# Altium schematic symbol library Balance.SchLib: 74 symbols
Pins are listed as number, name and electrical type; pins without a type are passive.

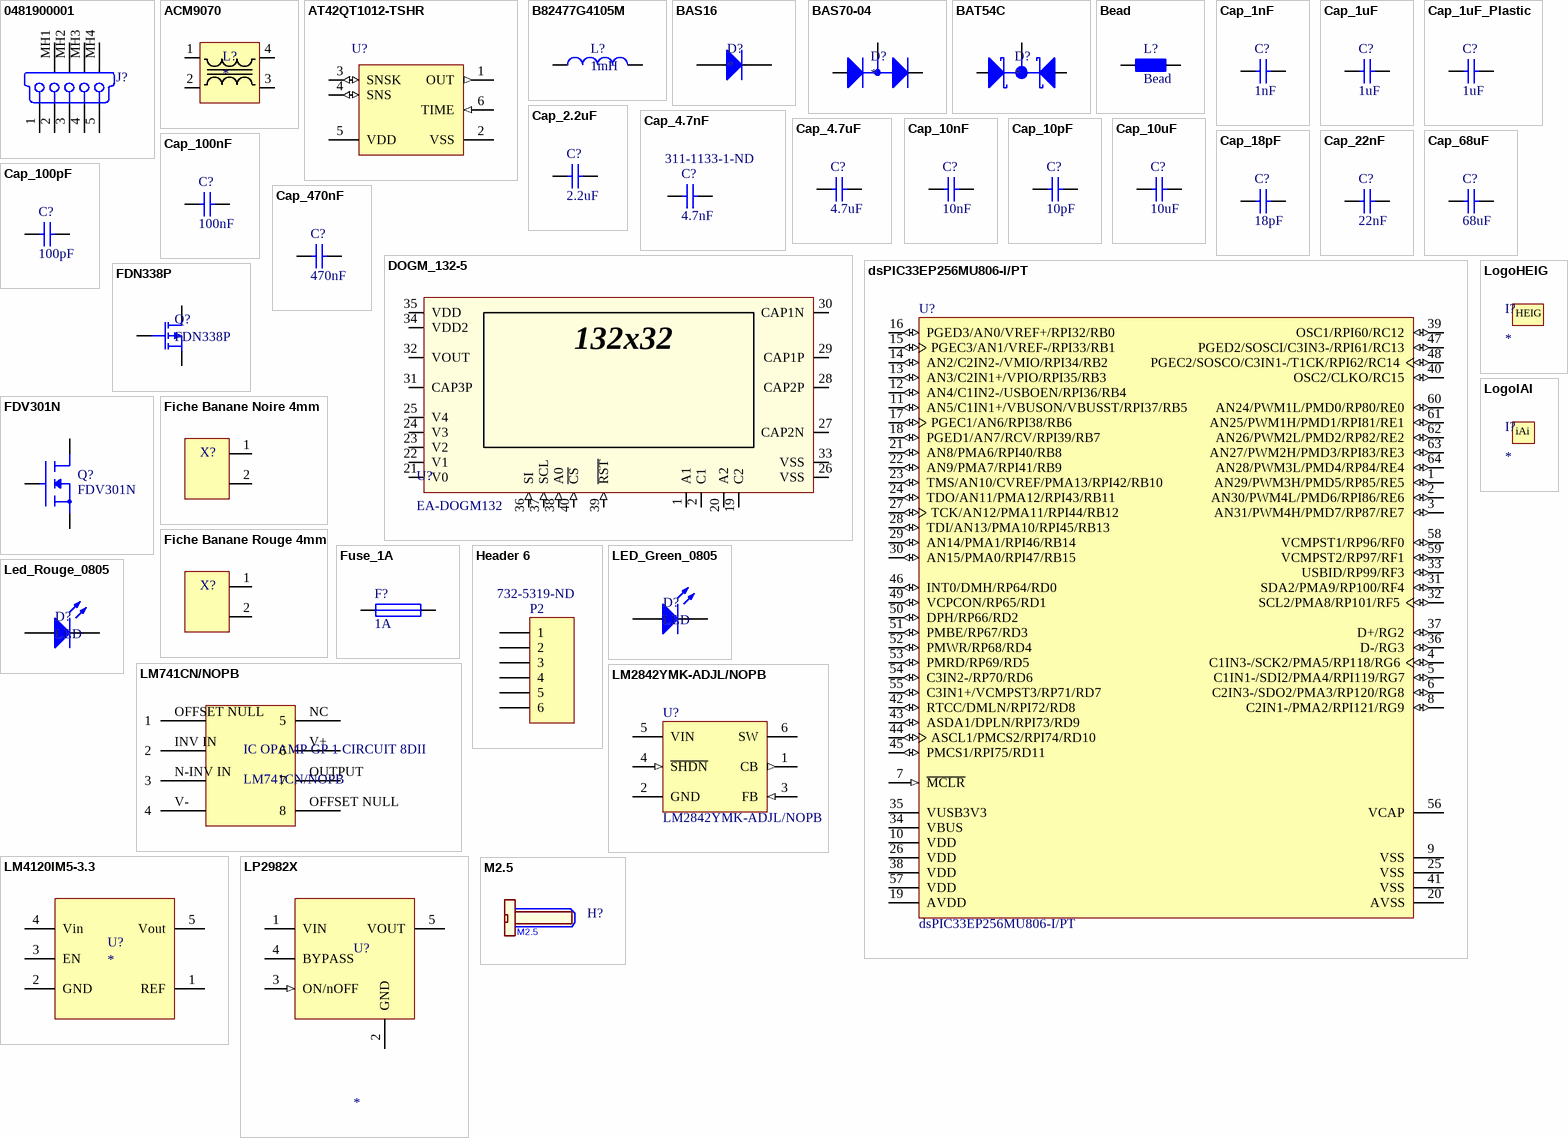
[diagram p0: symbols 0481900001 to M2.5]

## 0481900001
designator J?, comment 548190572  (value not drawn)
USB On-The-Go (OTG) Mini-B Receptacle, Right Angle, SMT, 0.80mm (.031") Pitch, Solder Tabs with Back Cover, Recessed Type; PCB_Layout: Complies with Manufacturer's Recommendation.; Published: 21-Sep-2007; DatasheetVersion: revA, May-2004; PackageVersion: May-2004; PackageReference: 548190572; Publisher: Altium Limited; PackageDescription: USB Mini-B, Sinking Type, SM; 5 Position; Right Angle, Body 11.45 x 11.8 x 3.9 mm (LxWxH); ComponentLink1Description: Manufacturer Link; ComponentLink1URL: http://www.molex.com/; ComponentLink2Description: Datasheet; ComponentLink2URL: http://www.molex.com/cmc_upload/0/000/895/958/SD-48190-001RevA.pdf; Supplier 1: Digi-Key; Supplier Part Number 1: H11574CT-ND
footprint CON_MICRO_USB_ZX62R
pins: 1 V BUS (5V) "USB Vcc [Red]", 2 D- "USB Data - [White]", 3 D+ "USB Data + [Green]", 4 NC "Not Connected (or joined to pin 5 via resistor)", 5 GND "Ground [Black]", MH1 Tab "Shell", MH2 Tab "Shell", MH3 Tab "Shell", MH4 Tab "Shell"

## ACM9070
designator L?
Supplier 1: Digi-Key; Supplier Part Number 1: 445-2216-1-ND
footprint ACM9070 (Common mode choke)
pins: 1  , 2  , 3  , 4  

## AT42QT1012-TSHR
designator U?
One-channel Toggle-mode Touch Sensor IC with Power Management Functions, -40° to +85° C, 6-pin SOT23; DatasheetVersion: revD, Aug-2010; PackageVersion: revA, Jun-2008; PackageReference: 6ST1; PackageDescription: 6-Lead, 2.90 x 1.60 mm Plastic Small Outline Package (SOT23); Code_JEDEC: MO-178-AB; Code_IPC: SOT26A-6; ComponentLink1Description: Manufacturer URL; ComponentLink1URL: http://www.atmel.com/; ComponentLink2Description: Datasheet; ComponentLink2URL: http://www.atmel.com/Images/doc9543.pdf; Supplier 1: Digi-Key; Supplier Part Number 1: AT42QT1012-TSHRCT-ND
footprint SOT-23-6 (SOT23, 6-Leads, Body 2.95x2.55mm, Pitch 0.95mm, IPC Medium Density)
pins: 1 OUT (out), 2 VSS (power), 3 SNSK (io), 4 SNS (io), 5 VDD (power), 6 TIME (in)

## B82477G4105M
designator L?, comment 1mH
Supplier 1: Digi-Key; Supplier Part Number 1: 495-1820-1-ND; Value: 1mH
footprint B82477G4
pins: 1, 2

## BAS16
designator D?
Supplier 1: Digi-Key; Supplier Part Number 1: BAS16LT1GOSCT-ND
footprint SOT23-3N (SOT23, 3-Leads, Body 2.9x1.3mm, Pitch 0.95mm, Lead Span 2.5mm, IPC Medium Density)
pins: 1 A, 3 K

## BAS70-04
designator D?
Supplier 1: Digi-Key; Supplier Part Number 1: BAS70-04-FDICT-ND
footprint SOT23-3N (SOT23, 3-Leads, Body 2.9x1.3mm, Pitch 0.95mm, Lead Span 2.5mm, IPC Medium Density)
pins: 1 A, 2 K, 3 A/K

## BAT54C
designator D?
Supplier 1: Digi-Key; Supplier Part Number 1: BAT54CLT1GOSCT-ND
footprint SOT23-3N (SOT23, 3-Leads, Body 2.9x1.3mm, Pitch 0.95mm, Lead Span 2.5mm, IPC Medium Density)
pins: 1 A1, 2 A2, 3 K

## Bead
designator L?
Value: Bead; Supplier 1: Digi-Key; Supplier Part Number 1: 240-2399-1-ND
footprint RESC2012N (Chip Resistor, Body 2.0x1.3mm, IPC Medium Density)
pins: 1, 2

## Cap_1nF
designator C?, comment 1nF
Capacitor; Value: 1nF; Supplier 1: Digi-Key; Supplier Part Number 1: 311-1127-1-ND
footprint CAPC2012N (Chip Capacitor, Body 2.0x1.3mm, IPC Medium Density)
pins: 1, 2

## Cap_1uF
designator C?, comment 1uF
Capacitor; Value: 1uF; Supplier 1: Digi-Key; Supplier Part Number 1: 490-10743-1-ND
footprint CAPC2012N (Chip Capacitor, Body 2.0x1.3mm, IPC Medium Density)
pins: 1, 2

## Cap_1uF_Plastic
designator C?, comment 1uF
Capacitor; Value: 1uF; Supplier 1: Digi-Key; Supplier Part Number 1: 399-6416-1-ND
footprint CAP2824 (Chip Capacitor, Body 3.2x1.6mm, IPC High Density)
pins: 1, 2

## Cap_2.2uF
designator C?, comment 2.2uF
Capacitor; Value: 2.2uF; Supplier 1: Digi-Key; Supplier Part Number 1: 490-10744-1-ND
footprint CAPC2012N (Chip Capacitor, Body 2.0x1.3mm, IPC Medium Density)
pins: 1, 2

## Cap_4.7nF
designator C?, comment 4.7nF  Supplier Part Number 1: 311-1133-1-ND
Capacitor; Value: 4.7nF; Supplier 1: Digi-Key
footprint CAPC2012N (Chip Capacitor, Body 2.0x1.3mm, IPC Medium Density)
pins: 1, 2

## Cap_4.7uF
designator C?, comment 4.7uF
Capacitor; Value: 4.7uF; Supplier 1: Digi-Key; Supplier Part Number 1: 490-12394-1-ND
footprint CAPC2012N (Chip Capacitor, Body 2.0x1.3mm, IPC Medium Density)
pins: 1, 2

## Cap_10nF
designator C?, comment 10nF
Capacitor; Value: 10nF; Supplier 1: Digi-Key; Supplier Part Number 1: 311-1136-1-ND
footprint CAPC2012N (Chip Capacitor, Body 2.0x1.3mm, IPC Medium Density)
pins: 1, 2

## Cap_10pF
designator C?, comment 10pF
Capacitor; Value: 10pF; Supplier 1: Digi-Key; Supplier Part Number 1: 311-1099-1-ND
footprint CAPC2012N (Chip Capacitor, Body 2.0x1.3mm, IPC Medium Density)
pins: 1, 2

## Cap_10uF
designator C?, comment 10uF
Capacitor; Value: 10uF; Supplier 1: Digi-Key; Supplier Part Number 1: 445-7886-1-ND
footprint CAP1206 (Chip Capacitor, Body 3.2x1.6mm, IPC High Density)
pins: 1, 2

## Cap_18pF
designator C?, comment 18pF
Capacitor; Value: 18pF; Supplier 1: Digi-Key; Supplier Part Number 1: 311-1102-1-ND
footprint CAPC2012N (Chip Capacitor, Body 2.0x1.3mm, IPC Medium Density)
pins: 1, 2

## Cap_22nF
designator C?, comment 22nF
Capacitor; Value: 22nF; Supplier 1: Digi-Key; Supplier Part Number 1: 311-1138-1-ND
footprint CAPC2012N (Chip Capacitor, Body 2.0x1.3mm, IPC Medium Density)
pins: 1, 2

## Cap_68uF
designator C?, comment 68uF
Capacitor; Value: 68uF; Supplier 1: Digi-Key; Supplier Part Number 1: 445-11687-1-ND
footprint CAP1206 (Chip Capacitor, Body 3.2x1.6mm, IPC High Density)
pins: 1, 2

## Cap_100nF
designator C?, comment 100nF
Capacitor; Value: 100nF; Supplier 1: Digi-Key; Supplier Part Number 1: 478-1395-1-ND
footprint CAPC2012N (Chip Capacitor, Body 2.0x1.3mm, IPC Medium Density)
pins: 1, 2

## Cap_100pF
designator C?, comment 100pF
Capacitor; Value: 100pF; Supplier 1: Digi-Key; Supplier Part Number 1: 399-1122-1-ND
footprint CAPC2012N (Chip Capacitor, Body 2.0x1.3mm, IPC Medium Density)
pins: 1, 2

## Cap_470nF
designator C?, comment 470nF
Capacitor; Value: 470nF; Supplier 1: Digi-Key; Supplier Part Number 1: 399-8100-1-ND
footprint CAPC2012N (Chip Capacitor, Body 2.0x1.3mm, IPC Medium Density)
pins: 1, 2

## DOGM_132-5
designator U?, comment EA-DOGM132
Chip On Glass Graphic LCD; Value: EA-DOGM132
footprint EA_DOGM132_WITH_BACKLIGHT
pins: 1 A1, 2 C1, 19 C2, 20 A2, 21 V0, 22 V1, 23 V2, 24 V3, 25 V4, 26 VSS (power), 27 CAP2N, 28 CAP2P, 29 CAP1P, 30 CAP1N, 31 CAP3P, 32 VOUT, 33 VSS (power), 34 VDD2 (power), 35 VDD (power), 36 SI (in), 37 SCL (in), 38 A0 (in), 39 ~{RST} (in), 40 ~{CS} (in)
text: 132x32

## dsPIC33EP256MU806-I/PT
designator U?
16-Bit Digital Signal Processor; Supplier 1: Digi-Key; Supplier Part Number 1: DSPIC33EP256MU806-I/PT-ND; Value: DSPIC33EP256MU806-I/PT
footprint TQFP64
pins: 1 AN29/PWM3H/PMD5/RP85/RE5 (io), 2 AN30/PWM4L/PMD6/RPI86/RE6 (io), 3 AN31/PWM4H/PMD7/RP87/RE7 (io), 4 C1IN3-/SCK2/PMA5/RP118/RG6 (io), 5 C1IN1-/SDI2/PMA4/RPI119/RG7 (io), 6 C2IN3-/SDO2/PMA3/RP120/RG8 (io), 7 ~{MCLR} (in) "Master Clear (Reset) input. This pin is an active-low Reset to the device.", 8 C2IN1-/PMA2/RPI121/RG9 (io), 9 VSS (power) "Ground reference for logic and I/O pins.", 10 VDD (power) "Positive supply for peripheral logic and I/O pins.", 11 AN5/C1IN1+/VBUSON/VBUSST/RPI37/RB5 (io), 12 AN4/C1IN2-/USBOEN/RPI36/RB4 (io), 13 AN3/C2IN1+/VPIO/RPI35/RB3 (io), 14 AN2/C2IN2-/VMIO/RPI34/RB2 (io), 15 PGEC3/AN1/VREF-/RPI33/RB1 (io), 16 PGED3/AN0/VREF+/RPI32/RB0 (io), 17 PGEC1/AN6/RPI38/RB6 (io), 18 PGED1/AN7/RCV/RPI39/RB7 (io), 19 AVDD (power) "Positive supply for analog modules. This pin must be connected at all times.", 20 AVSS (power) "Ground reference for analog modules.", 21 AN8/PMA6/RPI40/RB8 (io), 22 AN9/PMA7/RPI41/RB9 (io), 23 TMS/AN10/CVREF/PMA13/RPI42/RB10 (io), 24 TDO/AN11/PMA12/RPI43/RB11 (io), 25 VSS (power) "Ground reference for logic and I/O pins.", 26 VDD (power) "Positive supply for peripheral logic and I/O pins.", 27 TCK/AN12/PMA11/RPI44/RB12 (io), 28 TDI/AN13/PMA10/RPI45/RB13 (io), 29 AN14/PMA1/RPI46/RB14 (io), 30 AN15/PMA0/RPI47/RB15 (io), 31 SDA2/PMA9/RP100/RF4 (io), 32 SCL2/PMA8/RP101/RF5 (io), 33 USBID/RP99/RF3 (io), 34 VBUS (power) "USB bus power monitor.", 35 VUSB3V3 (power) "USB internal transceiver supply. If the USB module is not being used, this pin must be connected to VDD.", 36 D-/RG3 (io), 37 D+/RG2 (io), 38 VDD (power) "Positive supply for peripheral logic and I/O pins.", 39 OSC1/RPI60/RC12 (io), 40 OSC2/CLKO/RC15 (io), 41 VSS (power) "Ground reference for logic and I/O pins.", 42 RTCC/DMLN/RPI72/RD8 (io), 43 ASDA1/DPLN/RPI73/RD9 (io), 44 ASCL1/PMCS2/RPI74/RD10 (io), 45 PMCS1/RPI75/RD11 (io), 46 INT0/DMH/RP64/RD0 (io), 47 PGED2/SOSCI/C3IN3-/RPI61/RC13 (io), 48 PGEC2/SOSCO/C3IN1-/T1CK/RPI62/RC14 (io), 49 VCPCON/RP65/RD1 (io), 50 DPH/RP66/RD2 (io), 51 PMBE/RP67/RD3 (io), 52 PMWR/RP68/RD4 (io), 53 PMRD/RP69/RD5 (io), 54 C3IN2-/RP70/RD6 (io), 55 C3IN1+/VCMPST3/RP71/RD7 (io), 56 VCAP "CPU logic filter capacitor connection.", 57 VDD (power) "Positive supply for peripheral logic and I/O pins.", 58 VCMPST1/RP96/RF0 (io), 59 VCMPST2/RP97/RF1 (io), 60 AN24/PWM1L/PMD0/RP80/RE0 (io), 61 AN25/PWM1H/PMD1/RPI81/RE1 (io), 62 AN26/PWM2L/PMD2/RP82/RE2 (io), 63 AN27/PWM2H/PMD3/RPI83/RE3 (io), 64 AN28/PWM3L/PMD4/RP84/RE4 (io)

## FDN338P
designator Q?
MOSFet P; Supplier 1: Digi-Key; Supplier Part Number 1: FDN338PCT-ND; Value: FDN338P
footprint SOT23-3N (SOT23, 3-Leads, Body 2.9x1.3mm, Pitch 0.95mm, Lead Span 2.5mm, IPC Medium Density)
pins: 1 G, 2 S, 3 D

## FDV301N
designator Q?
Value: FDV301N; Supplier 1: Digi-Key; Supplier Part Number 1: FDV301NCT-ND
footprint SOT23-3N (SOT23, 3-Leads, Body 2.9x1.3mm, Pitch 0.95mm, Lead Span 2.5mm, IPC Medium Density)
pins: 1 G, 2 S, 3 D

## Fiche Banane Noire 4mm
designator X?
Supplier 1: Farnell; Supplier Part Number 1: 1698983
footprint BANANE
pins: 1  , 2  

## Fiche Banane Rouge 4mm
designator X?
Supplier 1: Farnell; Supplier Part Number 1: 1698982
footprint BANANE
pins: 1  , 2  

## Fuse_1A
designator F?, comment 1A
MFU0805FF01000P100; Supplier 1: Digi-Key; Supplier Part Number 1: MFU08051.00CT-ND; Value: 1A
footprint RESC2012N (Chip Resistor, Body 2.0x1.3mm, IPC Medium Density)
pins: 1, 2

## Header 6
designator P2, comment Supplier Part Number 1: 732-5319-ND  (hidden comment: Connector)
Header, 6-Pin; Supplier 1: Digi-Key
footprint HEADER_6 (Connector; Header; 6 Position)
pins: 1, 2, 3, 4, 5, 6

## LED_Green_0805
designator D?, comment LED
Supplier 1: Digi-Key; Supplier Part Number 1: 475-1410-1-ND
footprint LED2012N (Chip Resistor, Body 2.0x1.3mm, IPC Medium Density)
pins: 1 A, 2 K

## Led_Rouge_0805
designator D?, comment LED
Supplier 1: Digi-Key; Supplier Part Number 1: 475-1415-1-ND
footprint LED2012N (Chip Resistor, Body 2.0x1.3mm, IPC Medium Density)
pins: 1 A, 2 K

## LM741CN/NOPB
designator IC OPAMP GP 1 CIRCUIT 8DII
IC OPAMP GP 1 CIRCUIT 8DII; Supplier 1: Digi-Key; Supplier Part Number 1: LM741CNNS/NOPB-ND
pins: INV IN 2, N-INV IN 3, NC 5, OFFSET NULL 1, OFFSET NULL 8, OUTPUT 7, V+ 6, V- 4

## LM2842YMK-ADJL/NOPB
designator U?
600 mA up to 42V Input Step-Down DC/DC Regulator, Thin 6-pin SOT23, Pb-Free, 1000 Reel; Supplier 1: Digi-Key; Supplier Part Number 1: LM2842YMK-ADJL/NOPBCT-ND
footprint SOT-23-6 (SOT23, 6-Leads, Body 2.95x2.55mm, Pitch 0.95mm, IPC Medium Density)
pins: 1 CB (out), 2 GND (power), 3 FB (in), 4 ~{SHDN} (in), 5 VIN (power), 6 SW (power)

## LM4120IM5-3.3
designator U?
Supplier 1: Digi-Key; Supplier Part Number 1: LM4120IM5-3.3/NOPBCT-ND
footprint SOT-23-5
pins: 1 REF (power), 2 GND (power), 3 EN, 4 Vin (power), 5 Vout (power)

## LogoHEIG
designator I?
footprint LOGO HEIG-VD_TOP/solder TOP
text: HEIG

## LogoIAI
designator I?
footprint LOGO_IAI_TOP
text: iAi

## LP2982X
designator U?
Number devices in Package: 1; OriginalSymbolOrigin: (0,0)
pins: 1 VIN (power), 2 GND, 3 ON/nOFF (in), 4 BYPASS, 5 VOUT (power)

## M2.5
designator H?, comment Mhole M2.5  (value not drawn)
Value: Mhole M2.5
footprint MHOLE_M2.5
pins: 1 S

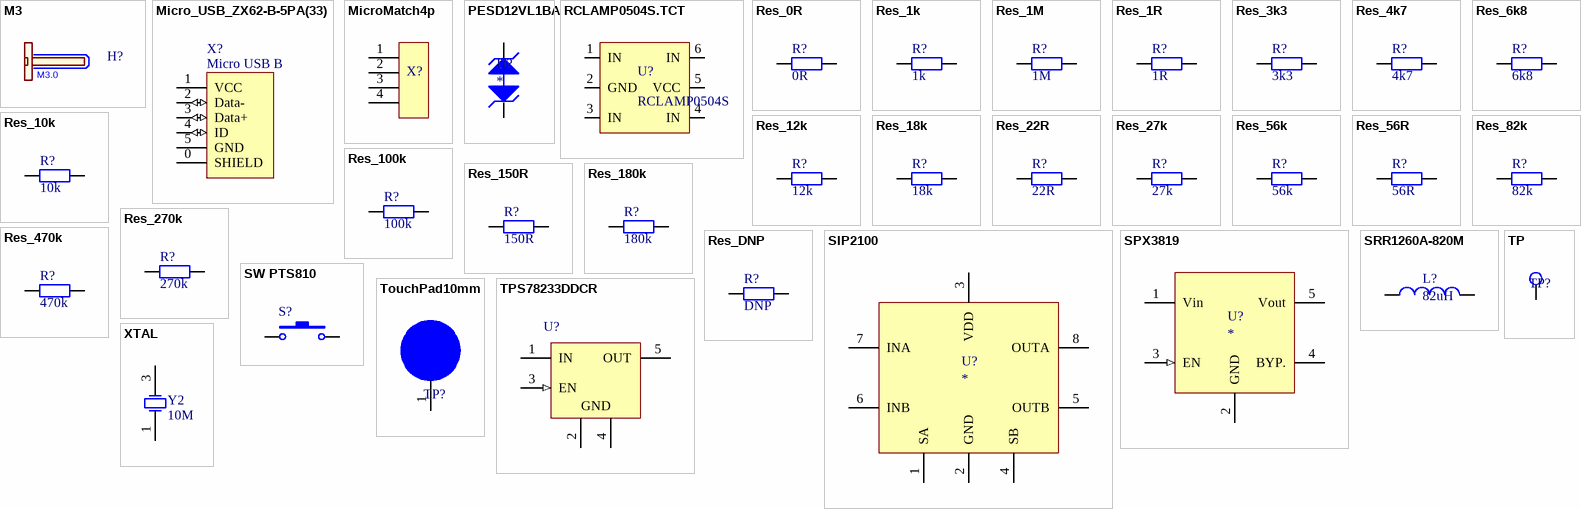
[diagram p1: symbols M3 to XTAL]

## M3
designator H?, comment Mhole M3  (value not drawn)
Value: Mhole M3
footprint MHOLE_M3.0
pins: 1 S
text: M3.0

## Micro_USB_ZX62-B-5PA(33)
designator X?, comment Micro USB B
Supplier 1: Digi-Key; Supplier Part Number 1: H125270CT-ND
footprint Micro_USB_ZX62-B-5PA(33) (Micro USB Connector)
pins: 0 SHIELD (power), 1 VCC (power), 2 Data- (io), 3 Data+ (io), 4 ID (io), 5 GND (power)

## MicroMatch4p
designator X?  (value not drawn)
Supplier 1: Digi-Key; Supplier Part Number 1: A107022CT-ND
footprint MicroMatch4p
pins: 1, 2, 3, 4

## PESD12VL1BA
designator D?
Supplier 1: Digi-Key; Supplier Part Number 1: 568-4022-1-ND
footprint SOD323
pins: 1 K1, 2 K2

## RCLAMP0504S.TCT
designator U?, comment RCLAMP0504S
Supplier 1: Digi-Key; Supplier Part Number 1: RCLAMP0504SCT-ND
footprint SOT-23-6 (SOT23, 6-Leads, Body 2.95x2.55mm, Pitch 0.95mm, IPC Medium Density)
pins: 1 IN, 2 GND, 3 IN, 4 IN, 5 VCC (power), 6 IN

## Res_0R
designator R?, comment 0R
Resistor; Value: 0R; Supplier 1: Digi-Key; Supplier Part Number 1: 311-0.0ARCT-ND
footprint RESC2012N (Chip Resistor, Body 2.0x1.3mm, IPC Medium Density)
pins: 1, 2

## Res_1k
designator R?, comment 1k
Resistor; Value: 1k; Supplier 1: Digi-Key; Supplier Part Number 1: 311-1.00KCRCT-ND
footprint RESC2012N (Chip Resistor, Body 2.0x1.3mm, IPC Medium Density)
pins: 1, 2

## Res_1M
designator R?, comment 1M
Resistor; Value: 1M; Supplier 1: Digi-Key; Supplier Part Number 1: 311-1.00MCRCT-ND
footprint RESC2012N (Chip Resistor, Body 2.0x1.3mm, IPC Medium Density)
pins: 1, 2

## Res_1R
designator R?, comment 1R
Resistor; Value: 1R; Supplier 1: Digi-Key; Supplier Part Number 1: CRT0805-CY-1R00ELFCT-ND
footprint RESC2012N (Chip Resistor, Body 2.0x1.3mm, IPC Medium Density)
pins: 1, 2

## Res_3k3
designator R?, comment 3k3
Resistor; Value: 3k3; Supplier 1: Digi-Key; Supplier Part Number 1: 311-3.30KCRCT-ND
footprint RESC2012N (Chip Resistor, Body 2.0x1.3mm, IPC Medium Density)
pins: 1, 2

## Res_4k7
designator R?, comment 4k7
Resistor; Value: 4k7; Supplier 1: Digi-Key; Supplier Part Number 1: 311-4.70KCRCT-ND
footprint RESC2012N (Chip Resistor, Body 2.0x1.3mm, IPC Medium Density)
pins: 1, 2

## Res_6k8
designator R?, comment 6k8
Resistor; Value: 6k8; Supplier 1: Digi-Key; Supplier Part Number 1: 311-6.80KCRCT-ND
footprint RESC2012N (Chip Resistor, Body 2.0x1.3mm, IPC Medium Density)
pins: 1, 2

## Res_10k
designator R?, comment 10k
Resistor; Value: 10k; Supplier 1: Digi-Key; Supplier Part Number 1: 311-10.0KCRCT-ND
footprint RESC2012N (Chip Resistor, Body 2.0x1.3mm, IPC Medium Density)
pins: 1, 2

## Res_12k
designator R?, comment 12k
Resistor; Value: 12k; Supplier 1: Digi-Key; Supplier Part Number 1: 311-12.0KCRCT-ND
footprint RESC2012N (Chip Resistor, Body 2.0x1.3mm, IPC Medium Density)
pins: 1, 2

## Res_18k
designator R?, comment 18k
Resistor; Value: 18k; Supplier 1: Digi-Key; Supplier Part Number 1: 311-18.0KCRCT-ND
footprint RESC2012N (Chip Resistor, Body 2.0x1.3mm, IPC Medium Density)
pins: 1, 2

## Res_22R
designator R?, comment 22R
Resistor; Value: 22R; Supplier 1: Digi-Key; Supplier Part Number 1: 311-22.0CRCT-ND
footprint RESC2012N (Chip Resistor, Body 2.0x1.3mm, IPC Medium Density)
pins: 1, 2

## Res_27k
designator R?, comment 27k
Resistor; Value: 27k; Supplier 1: Digi-Key; Supplier Part Number 1: 311-27.0KCRCT-ND
footprint RESC2012N (Chip Resistor, Body 2.0x1.3mm, IPC Medium Density)
pins: 1, 2

## Res_56k
designator R?, comment 56k
Resistor; Value: 56k; Supplier 1: Digi-Key; Supplier Part Number 1: 311-56.0KCRCT-ND
footprint RESC2012N (Chip Resistor, Body 2.0x1.3mm, IPC Medium Density)
pins: 1, 2

## Res_56R
designator R?, comment 56R
Resistor; Value: 56R; Supplier 1: Digi-Key; Supplier Part Number 1: 311-56.0CRCT-ND
footprint RESC2012N (Chip Resistor, Body 2.0x1.3mm, IPC Medium Density)
pins: 1, 2

## Res_82k
designator R?, comment 82k
Resistor; Value: 82k; Supplier 1: Digi-Key; Supplier Part Number 1: 311-82.0KCRCT-ND
footprint RESC2012N (Chip Resistor, Body 2.0x1.3mm, IPC Medium Density)
pins: 1, 2

## Res_100k
designator R?, comment 100k
Resistor; Value: 100k; Supplier 1: Digi-Key; Supplier Part Number 1: 311-100KCRCT-ND
footprint RESC2012N (Chip Resistor, Body 2.0x1.3mm, IPC Medium Density)
pins: 1, 2

## Res_150R
designator R?, comment 150R
Resistor; Value: 150R; Supplier 1: Digi-Key; Supplier Part Number 1: 311-150CRCT-ND
footprint RESC2012N (Chip Resistor, Body 2.0x1.3mm, IPC Medium Density)
pins: 1, 2

## Res_180k
designator R?, comment 180k
Resistor; Value: 180k; Supplier 1: Digi-Key; Supplier Part Number 1: 311-180KCRCT-ND
footprint RESC2012N (Chip Resistor, Body 2.0x1.3mm, IPC Medium Density)
pins: 1, 2

## Res_270k
designator R?, comment 270k
Resistor; Value: 270k; Supplier 1: Digi-Key; Supplier Part Number 1: 311-270KCRCT-ND
footprint RESC2012N (Chip Resistor, Body 2.0x1.3mm, IPC Medium Density)
pins: 1, 2

## Res_470k
designator R?, comment 470k
Resistor; Value: 470k; Supplier 1: Digi-Key; Supplier Part Number 1: 311-470KCRCT-ND
footprint RESC2012N (Chip Resistor, Body 2.0x1.3mm, IPC Medium Density)
pins: 1, 2

## Res_DNP
designator R?, comment DNP
Resistor; Value: DNP
footprint RESC2012N (Chip Resistor, Body 2.0x1.3mm, IPC Medium Density)
pins: 1, 2

## SIP2100
designator U?
Supplier 1: Digi-Key; Supplier Part Number 1: SIP2100DY-T1-GE3CT-ND
footprint SOIC8
pins: 1 SA, 2 GND, 3 VDD, 4 SB, 5 OUTB, 6 INB, 7 INA, 8 OUTA

## SPX3819
designator U?
Supplier 1: Digi-Key; Supplier Part Number 1: 1016-1873-1-ND
footprint SOT-23-5
pins: 1 Vin (power), 2 GND (power), 3 EN (in), 4 BYP. (power), 5 Vout (power)

## SRR1260A-820M
designator L?, comment 82uH
Value: 82uH; Supplier 1: Digi-Key; Supplier Part Number 1: SRR1260A-820MCT-ND
footprint SRR1260A-820MC
pins: 1, 2

## SW PTS810
designator S?  (value not drawn)
Switch; Supplier 1: Digi-Key; Supplier Part Number 1: CKN10502CT-ND
footprint SW PTS810
pins: 1, 3

## TouchPad10mm
designator TP?  (value not drawn)
footprint TouchPad10mm
pins: 1

## TP
designator TP?
=Value; Supplier 1: Digi-Key; Supplier Part Number 1: 36-5006-ND
footprint Testpoint
pins: 1

## TPS78233DDCR
designator U?
Single Output LDO, 150 mA, Fixed 3.3 V Output, 2.2 to 5.5 V Input, with 0.5 uA Quiescent Current, 5-pin SOT (DDC), -40 to 125 degC, Green (RoHS & no Sb/Br); Manufacturer: Texas Instruments; PartNumber: TPS78233DDCR; Accuracy(%): 3; Dynamic Voltage Scaling: TRUE; Fixed Output Options(V): 3.3; Iout(Max)(A): 0.15; Iq(Typ)(mA): 0.0005; Rating: Catalog; SubFamily: Single Channel LDO; Vdo(Typ)(mV): 130; Vin(Max)(V): 5.5; Vin(Min)(V): 2.2; DatasheetVersion: SBVS115B; PackageVersion: 4204403-2/E; PackageReference: DDC5; PackageDescription: 5-Pin Plastic Small Outline, Body 2.9 x 1.6 mm, 0.95 mm Pitch; Supplier 1: Digi-Key; Supplier Part Number 1: 296-24059-1-ND; Eco-Plan: Green (RoHS & no Sb/Br); Vout Adj(Max)(V): 3.3; Vout Adj(Min)(V): 3.3; Mounting Technology: Surface Mount; Code_JEDEC: MO-193; ComponentLink1Description: Manufacturer URL; ComponentLink1URL: http://www.ti.com/; ComponentLink2Description: Datasheet; ComponentLink2URL: http://www.ti.com/general/docs/lit/getliterature.tsp?genericPartNumber=TPS78233&fileType=pdf; ComponentLink3Description: Package Specification; ComponentLink3URL: http://www.ti.com/litv/pdf/mpds123d
footprint SOT-23-5
footprint SOT-23-5
pins: 1 IN (power) "Input pin. A small capacitor is needed from this pin to ground to assure stability. Typical input capacitor = 1.0uF. Both input and output capacitor grounds should be tied back to the IC ground with no significant impedance (See Datasheet)", 2 GND "ALL ground pins must be tied to ground for proper operation.", 3 EN (in) "Driving the enable pin (EN) over 1.2V turns ON the regulator. Driving this pin below 0.4V puts the regulator into shutdown mode, reducing operating current to 18nA typical.", 4 GND "ALL ground pins must be tied to ground for proper operation.", 5 OUT (power) "Regulated output voltage pin. A small (1uF) ceramic capacitor is needed from this pin to ground to assure stability."

## XTAL
designator Y2  value 10M  (hidden comment: XTAL)
Crystal Oscillator; Supplier 1: Digi-Key; Supplier Part Number 1: 535-9150-1-ND
simulation model XTAL (Spice Subcircuit)
footprint CRYSTAL_ABMM
pins: 1 OSC1, 3 OSC2